# EAGLE library part PRUEBA (library conector)
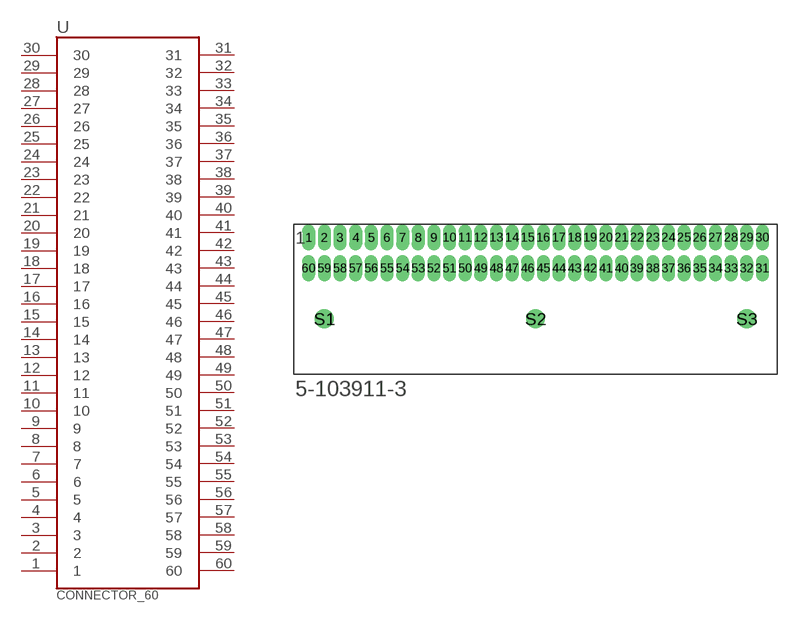
[diagram p0: symbol with the pads of CONECTOR_60_TYCO_MODIFICADO; footprint CONECTOR_60_TYCO_MODIFICADO]

Designator prefix -

## PRUEBA  [CONECTOR_60_TYCO_MODIFICADO]
1  1  out
2  2  out
3  3  out
4  4  out
5  5  out
6  6  pwr
7  7  pwr
8  8  in
9  9  in
10  10  in
11  11  in
12  12  in
13  13
14  14  pwr
15  15  pwr
16  16  pwr
17  17  pwr
18  18  pwr
19  19  pwr
20  20
21  21
22  22  pwr
23  23  pwr
24  24  pwr
25  25  pwr
26  26
27  27
28  28  pwr
29  29  pwr
30  30  pwr
31  31
32  32
33  33
34  34
35  35
36  36
37  37
38  38
39  39
40  40
41  41
42  42
43  43
44  44
45  45
46  46
47  47
48  48
49  49
50  50
51  51  in
52  52  in
53  53
54  54
55  55
56  56  out
57  57  out
58  58  out
59  59  out
60  60  out

## Footprint CONECTOR_60_TYCO_MODIFICADO (pad centres in mm)
drill 0.559 pad 0.65 long: 1 -18.415,11.099; 2 -17.145,11.099; 3 -15.875,11.099; 4 -14.605,11.099; 5 -13.335,11.099; 6 -12.065,11.099; 7 -10.795,11.099; 8 -9.525,11.099; 9 -8.255,11.099; 10 -6.985,11.099; 11 -5.715,11.099; 12 -4.445,11.099; 13 -3.175,11.099; 14 -1.905,11.099; 15 -0.635,11.099; 16 0.635,11.099; 17 1.905,11.099; 18 3.175,11.099; 19 4.445,11.099; 20 5.715,11.099; 21 6.985,11.099; 22 8.255,11.099; 23 9.525,11.099; 24 10.795,11.099; 25 12.065,11.099; 26 13.335,11.099; 27 14.605,11.099; 28 15.875,11.099; 29 17.145,11.099; 30 18.415,11.099; 31 18.415,8.599; 32 17.145,8.599; 33 15.875,8.599; 34 14.605,8.599; 35 13.335,8.599; 36 12.065,8.599; 37 10.795,8.599; 38 9.525,8.599; 39 8.225,8.599; 40 6.985,8.599; 41 5.715,8.599; 42 4.445,8.599; 43 3.175,8.599; 44 1.905,8.599; 45 0.635,8.599; 46 -0.635,8.599; 47 -1.905,8.599; 48 -3.175,8.599; 49 -4.445,8.599; 50 -5.715,8.599; 51 -6.985,8.599; 52 -8.255,8.599; 53 -9.525,8.599; 54 -10.795,8.599; 55 -12.065,8.599; 56 -13.335,8.599; 57 -14.605,8.599; 58 -15.875,8.599; 59 -17.145,8.599; 60 -18.415,8.599
drill 0.94 pad 1.524 round: S1 -17.145,4.495; S2 0,4.495; S3 17.145,4.495